# EAGLE library part 87758-10_S (library untitled)
HEADER
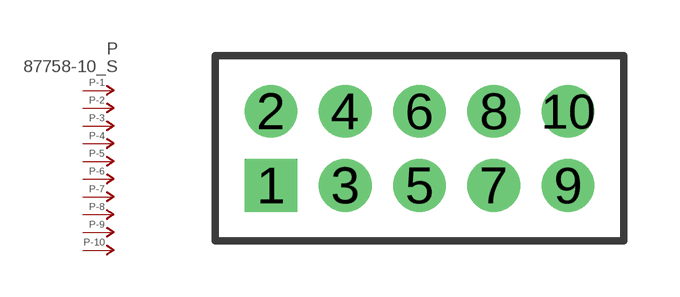
[diagram p337: symbol with the pads of 87758-10; footprint 87758-10]

Designator prefix P; gates -1=P-NV -2=P-N -3=P-N -4=P-N -5=P-N -6=P-N -7=P-N -8=P-N -9=P-N -10=P-N

## 87758-10_S  [87758-10]
1  -1:P  pas
2  -2:P  pas
3  -3:P  pas
4  -4:P  pas
5  -5:P  pas
6  -6:P  pas
7  -7:P  pas
8  -8:P  pas
9  -9:P  pas
10  -10:P  pas

## Footprint 87758-10 (pad centres in mm)
HEADER Dual Row, Vertical
drill 0.914 square: 1 -4,-1
drill 0.914 round: 2 -4,1; 3 -2,-1; 4 -2,1; 5 0,-1; 6 0,1; 7 2,-1; 8 2,1; 9 4,-1; 10 4,1